# EAGLE library part MAX17055 (library U-Maxim-MAX17055-fuel-gauge)
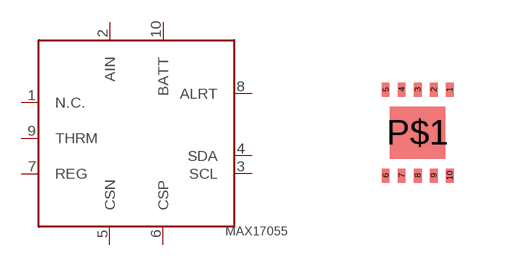
[diagram p0: symbol with the pads of TDFN-10L; footprint TDFN-10L]

Designator prefix U

## MAX17055  [TDFN-10L]
1  N.C.
2  AIN
3  SCL
4  SDA
5  CSN
6  CSP
7  REG
8  ALRT
9  THRM
10  BATT

## Footprint TDFN-10L (pad centres in mm)
TDFN-10L 2.4 X 2.0 X 0.75 mm Exposed Pad Using 0.2 x 0.35 pads
smd 0.2 x 0.35: 1 0.8,1.075; 2 0.4,1.075; 3 0,1.075; 4 -0.4,1.075; 5 -0.8,1.075; 6 -0.8,-1.075; 7 -0.4,-1.075; 8 0,-1.075; 9 0.4,-1.075; 10 0.8,-1.075
smd 1.4 x 1.3: P$1 0,0